# Altium schematic symbol library ADC.SchLib: 2 symbols
Pins are listed as number, name and electrical type; pins without a type are passive.

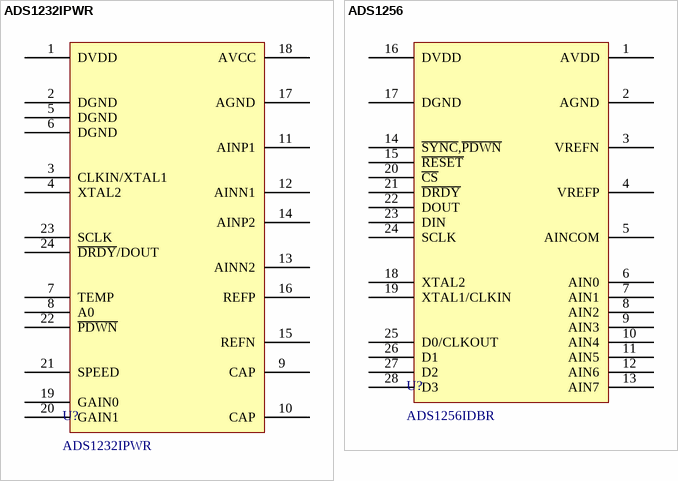
[diagram p0: symbols ADS1232IPWR to ADS1256]

## ADS1232IPWR
designator U?
24 2.7V~5.3V 10Hz SPI TSSOP-24 Analog to Digital Converters (ADC) ROHS; Manufacturer: Texas Instruments; Supply Voltage - Max: 5.3 V; Supply Voltage - Min: 2.7 V; Architecture: Sigma-Delta; Input Type: Differential/Single-Ended; Integral Nonlinearity: 168 LSB; Interface Type: I2C, SPI; Number of Channels: 2 Channel; Number of Converters: 1 converter; Power Consumption: 4.3 mW; Power Dissipation: 13.1 mW; Reference Type: External; Reference Voltage: 5 V; Resolution: 24 bit; Sampling Rate: 10 S/s / 80 S/s; ComponentLink1Description: Datasheet; ComponentLink1URL: https://www.lcsc.com/datasheet/C27919.pdf; LCSC Part #: C27919; Manufacturer Part Number: ADS1232IPWR; Mount: SMD/SMT; Operating Temperature Max: + 105 C; Operating Temperature Min: - 40 C; Package / Case: TSSOP-24; Packaging: Tape and Reel; Supplier 1: Mouser; Supplier 1 Part Number: N/A; Supplier 1 URL: N/A; Supplier 2: Digi-Key; Supplier 2 Part Number: N/A; Supplier 2 URL: N/A; Supplier 3: thegioiic; Supplier 3 Part Number: N/A; Supplier 3 URL: N/A; Value: ADS1232IPWR; Features: 50/60 Hz Rejection, Oscillator, PGA; Moisture Sensitive: Yes
footprint PW(R-PDSO-G24) (TSOP, 24-Leads, Body 7.80x4.40mm, Pitch 0.65mm, IPC Medium Density)
pins: 1 DVDD, 2 DGND, 3 CLKIN/XTAL1, 4 XTAL2, 5 DGND, 6 DGND, 7 TEMP, 8 A0, 9 CAP, 10 CAP, 11 AINP1, 12 AINN1, 13 AINN2, 14 AINP2, 15 REFN, 16 REFP, 17 AGND, 18 AVCC, 19 GAIN0, 20 GAIN1, 21 SPEED, 22 ~{PDWN}, 23 SCLK, 24 ~{DRDY}/DOUT

## ADS1256
designator U?, comment ADS1256IDBR
ADC 24Bit 30kSPS Very Lo -Noise Delta-Sigma A 595-ADS1256IDBT; Manufacturer: Texas Instruments; Architecture: Sigma-Delta; Input Type: Differential/Single-Ended; Integral Nonlinearity: +/- 0.001 % FSR; Interface Type: I2C, SPI; Number of Channels: 4/8 Channel; Number of Converters: 1 converter; Power Consumption: 36 mW; Power Dissipation: 57 mW; Reference Type: External; Reference Voltage: 5 V; Sampling Rate: 30 kS/s; Supply Voltage - Max: 5.3 V; Supply Voltage - Min: 1.8 V; ComponentLink1Description: Datasheet; ComponentLink1URL: https://www.lcsc.com/datasheet/C28186.pdf; Features: 50/60 Hz Rejection, GPIO, PGA; LCSC Part #: C28186; Manufacturer Part Number: ADS1256IDBR; Moisture Sensitive: Yes; Mount: SMD/SMT; Operating Temperature Max: + 85 C; Operating Temperature Min: - 40 C; Package / Case: SSOP-28; Packaging: Tape and Reel; Resolution: 24 bit; Supplier 1: Mouser; Supplier 1 Part Number: 595-ADS1256IDBR; Supplier 1 URL: https://www.mouser.com/ProductDetail/Texas-Instruments/ADS1256IDBR?qs=RaXRGs7zCv5IPPtvogIk9Q%3D%3D; Supplier 2: Digi-Key; Supplier 2 Part Number: N/A; Supplier 2 URL: N/A; Supplier 3: thegioiic; Supplier 3 Part Number: N/A; Supplier 3 URL: N/A; Value: ADS1256IDBR
footprint DB0028A (SOP, 28-Leads, Body 10.20x5.30mm, Pitch 0.65mm, IPC Medium Density)
pins: 1 AVDD, 2 AGND, 3 VREFN, 4 VREFP, 5 AINCOM, 6 AIN0, 7 AIN1, 8 AIN2, 9 AIN3, 10 AIN4, 11 AIN5, 12 AIN6, 13 AIN7, 14 ~{SYNC},~{PDWN}, 15 ~{RESET}, 16 DVDD, 17 DGND, 18 XTAL2, 19 XTAL1/CLKIN, 20 ~{CS}, 21 ~{DRDY}, 22 DOUT, 23 DIN, 24 SCLK, 25 D0/CLKOUT, 26 D1, 27 D2, 28 D3